# EAGLE library part SCA3000 (library diode-20CJQ030)
VTI's SCA3000 (-D01, -D02, -E02, -E04) 3-AXIS ULTRA LOW POWER ACCELEROMETER WITH DIGITAL I2C or SPI INTERFACE Description: SCA3000 is a three axis accelerometer family targeted for products requiring high performance with low power consumption. It consists of a 3D-MEMS sensing element and a signal conditioning ASIC packaged into a plastic Molded Interconnection Device package (MID). Features: 2.35 V - 3.6 V supply voltage, 1.7 V - 3.6 V digital I/O voltage ±2 g, ±3 g or ±6 g measurement range I2C or SPI digital interface: V2.1 compliant, 10-bit addressing, supports standard mode Selectable frequency response Ultra low current consumption (2.5 V, 120 uA, 200 uA, 480 uA or 650 uA typ) 64 samples/axis buffer memory for output acceleration data and advanced features enable significant power and resource savings at system level Interrupt signal triggered by motion and free fall Size 7x7x1.8 mm Proven capacitive 3D-MEMS technology High shock durability RoHS compliant / lead free soldering Applications: SCA3000-E02 is targeted to battery operated wrist and hand-held devices. Typical applications are but not limited Motion activated functions in mobile terminals and antitheft systems Gaming input devices Inclination sensing in digital inclinometers Tilt compensation in electronic compass Hard disk protection Pedometers and activity monitors Please send any comments to: messi@users.sourceforge.net
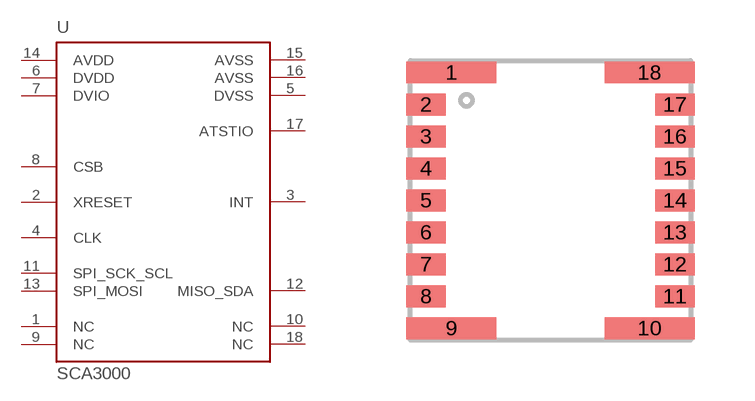
[diagram p190: symbol with the pads of SCA3000; footprint SCA3000]

Designator prefix U

## SCA3000  [SCA3000]
1  NC  nc
2  XRESET  in
3  INT  out
4  CLK  in
5  DVSS  pwr
6  DVDD  pwr
7  DVIO  pwr
8  CSB  in
9  NC  nc
10  NC  nc
11  SPI_SCK_SCL  in
12  MISO_SDA
13  SPI_MOSI  in
14  AVDD  pwr
15  AVSS  pwr
16  AVSS  pwr
17  ATSTIO  pas
18  NC  nc

## Footprint SCA3000 (pad centres in mm)
VTI's landpattern for the SCA3000 accelerometer
smd 2.25 x 0.55: 1 -2.475,3.2; 9 -2.475,-3.2; 10 2.475,-3.2; 18 2.475,3.2
smd 0.976 x 0.55: 2 -3.112,2.4; 3 -3.112,1.6; 4 -3.112,0.8; 5 -3.112,0; 6 -3.112,-0.8; 7 -3.112,-1.6; 8 -3.112,-2.4; 11 3.112,-2.4; 12 3.112,-1.6; 13 3.112,-0.8; 14 3.112,0; 15 3.112,0.8; 16 3.112,1.6; 17 3.112,2.4